# Altium schematic symbol library JLC_PCB.SchLib: 359 symbols (part 1 of 3)
Pins are listed as number, name and electrical type; pins without a type are passive.

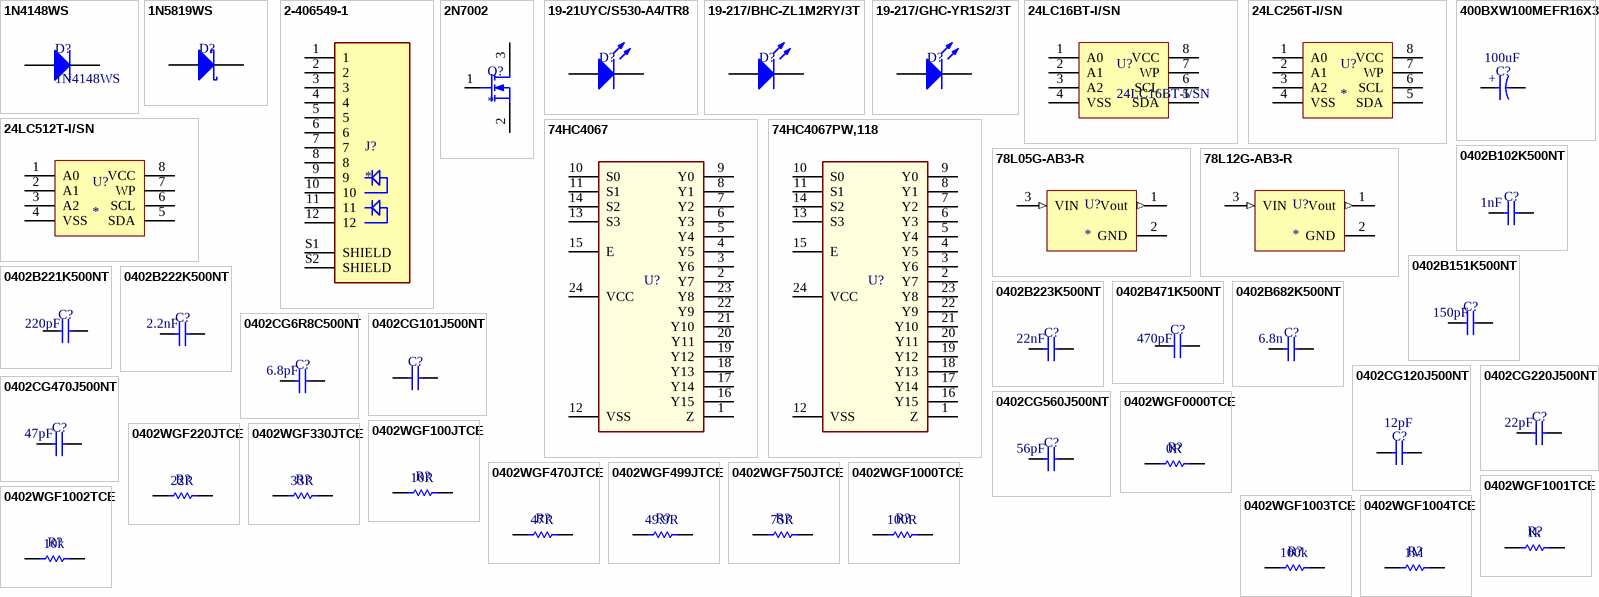
[diagram p0: symbols 1N4148WS to 0402WGF1004TCE]

## 1N4148WS
designator D?
D - DIODE - FAST TRR - 100V - 150mA - 4ns; LCSC Part #: C2128; JLC Availability: Basic; PIV: 100V; If: 150mA; Trr: 4ns
footprint SOD-323 (SOD-323/SC-76; 2 Leads; Body 1.7 x 1.3 mm, (LxW))
pins: 1 K, 2 A

## 1N5819WS
designator D?  (value not drawn)
D - DIODE - SCHOTTKY - 40V - 1A; Trr: 4ns; LCSC Part #: C191023; JLC Availability: Basic; PIV: 40V; If: 1A
footprint SOD-323 (SOD-323/SC-76; 2 Leads; Body 1.7 x 1.3 mm, (LxW))
pins: 1 K, 2 A

## 2-406549-1
designator J?
J - JACK - 8P8C - Right INV - LED - SHIELD - THT; LCSC Part #: C125068; JLC Availability: Extended
footprint TE_2-406549-1
pins: 1, 2, 3, 4, 5, 6, 7, 8, 9, 10, 11, 12, S1 SHIELD, S2 SHIELD

## 2N7002
designator Q?
Q - TRANSISTOR - MOSFET (N) - 60V - 200mW; WVDC: 60; JLC Availability: Basic; LCSC Part #: C8545
footprint TO-236AB (SOT-23-3 Leads; Body 3.1 x 3 mm, inc. leads (LxW max))
pins: 1 G, 2 S, 3 D

## 19-21UYC/S530-A4/TR8
designator D?  (value not drawn)
D - LED - 0603 - Yellow (Sodium); LCSC Part #: C409441; JLC Availability: Extended
footprint D_0603 (Chip Diode; Body 1.6 x 0.8 mm (LxW typ))
pins: 1 K, 2 A

## 19-217/BHC-ZL1M2RY/3T
designator D?  (value not drawn)
D - LED - 0603 - Blue; LCSC Part #: C72041; JLC Availability: Basic
footprint D_0603 (Chip Diode; Body 1.6 x 0.8 mm (LxW typ))
pins: 1 K, 2 A

## 19-217/GHC-YR1S2/3T
designator D?  (value not drawn)
D - LED - 0603 - Green; LCSC Part #: C72043; JLC Availability: Basic
footprint D_0603 (Chip Diode; Body 1.6 x 0.8 mm (LxW typ))
pins: 1 K, 2 A

## 24LC16BT-I/SN
designator U?
U - IC - EEPROM 16k; LCSC Part #: C5456; JLC Availability: Extended; Storage: 16K
footprint SOIC-8-P1.27-W3.5
pins: 1 A0, 2 A1, 3 A2, 4 VSS, 5 SDA, 6 SCL, 7 WP, 8 VCC

## 24LC256T-I/SN
designator U?
U - IC - EEPROM 256k; LCSC Part #: C5458; JLC Availability: Extended; Storage: 256k
footprint SOIC-8-P1.27-W3.5
pins: 1 A0, 2 A1, 3 A2, 4 VSS, 5 SDA, 6 SCL, 7 WP, 8 VCC

## 24LC512T-I/SN
designator U?
U - IC - EEPROM 512k; LCSC Part #: C52088; JLC Availability: Extended; Storage: 512k
footprint SOIC-8-P1.27-W3.5
pins: 1 A0, 2 A1, 3 A2, 4 VSS, 5 SDA, 6 SCL, 7 WP, 8 VCC

## 74HC4067
designator U?
U - IC -16 Port Analog MUX; ComponentLink1Description: Manufacturer URL; ComponentLink1URL: http://www.st.com/web/en/home.html; ComponentLink2Description: Datasheet; ComponentLink2URL: http://www.st.com/st-web-ui/static/active/en/resource/technical/document/datasheet/CD00161566.pdf; ComponentLink3Description: Package Specification; ComponentLink3URL: http://www.st.com/st-web-ui/static/active/en/resource/technical/document/datasheet/DM00058181.pdf; JLC Availability: Extended; LCSC Part #: C547039
footprint TSSOP-24-P0.65MM-W4.4MM-LONGPADS (Shrink Small Outline; 24 Leads)
pins: 1 Z, 2 Y7, 3 Y6, 4 Y5, 5 Y4, 6 Y3, 7 Y2, 8 Y1, 9 Y0, 10 S0 "VSS_3", 11 S1, 12 VSS (power), 13 S3, 14 S2, 15 E, 16 Y15, 17 Y14, 18 Y13, 19 Y12, 20 Y11, 21 Y10, 22 Y9, 23 Y8, 24 VCC (power)

## 74HC4067PW,118
designator U?
U - IC -16 Port Analog MUX; ComponentLink1Description: Manufacturer URL; ComponentLink1URL: http://www.st.com/web/en/home.html; ComponentLink2Description: Datasheet; ComponentLink2URL: http://www.st.com/st-web-ui/static/active/en/resource/technical/document/datasheet/CD00161566.pdf; ComponentLink3Description: Package Specification; ComponentLink3URL: http://www.st.com/st-web-ui/static/active/en/resource/technical/document/datasheet/DM00058181.pdf; JLC Availability: Extended; LCSC Part #: C179326
footprint TSSOP-24-P0.65MM-W4.4MM-LONGPADS (Shrink Small Outline; 24 Leads)
pins: 1 Z, 2 Y7, 3 Y6, 4 Y5, 5 Y4, 6 Y3, 7 Y2, 8 Y1, 9 Y0, 10 S0 "VSS_3", 11 S1, 12 VSS (power), 13 S3, 14 S2, 15 E, 16 Y15, 17 Y14, 18 Y13, 19 Y12, 20 Y11, 21 Y10, 22 Y9, 23 Y8, 24 VCC (power)

## 78L05G-AB3-R
designator U?
U - IC - 5V Power Regulator; VOut: 5.0; LCSC Part #: C71136; JLC Availability: Basic
footprint SOT-223-3 (SOT223, 4-Leads, Body IPC High Density)
pins: 1 Vout (out), 2 GND (power), 3 VIN (in)

## 78L12G-AB3-R
designator U?
U - IC - 12V Power Regulator; VOut: 12.0; LCSC Part #: C75501; JLC Availability: Basic
footprint SOT-223-3 (SOT223, 4-Leads, Body IPC High Density)
pins: 1 Vout (out), 2 GND (power), 3 VIN (in)

## 400BXW100MEFR16X30
designator C?  value 100uF  (hidden comment: *)
C - CAPACITOR - ELECTROLYTIC - 100uF - 400V; WVDC: 400; ESR: 40mOhm; JLC Availability: Extended; LCSC Part #: C441621
footprint C_CAN_TH_7.5MM_LEADS
pins: 1, 2
text: +

## 0402B102K500NT
designator C?  value 1nF  (hidden comment: *)
C - CAPACITOR - MLCC - 1nF - 50V - 0402; WVDC: 50; LCSC Part #: C1523; JLC Availability: Basic
footprint C_0402 (Chip Capacitor; Body 1.0 x 0.5 mm (LxW typ))
pins: 1, 2

## 0402B151K500NT
designator C?  value 150pF  (hidden comment: *)
C - CAPACITOR - MLCC - 150pF - 50V - 0402; WVDC: 50; LCSC Part #: C1527; JLC Availability: Basic
footprint C_0402 (Chip Capacitor; Body 1.0 x 0.5 mm (LxW typ))
pins: 1, 2

## 0402B221K500NT
designator C?  value 220pF  (hidden comment: *)
C - CAPACITOR - MLCC - 220pF - 50V - 0402; WVDC: 50; LCSC Part #: C1530; JLC Availability: Basic
footprint C_0402 (Chip Capacitor; Body 1.0 x 0.5 mm (LxW typ))
pins: 1, 2

## 0402B222K500NT
designator C?  value 2.2nF  (hidden comment: *)
C - CAPACITOR - MLCC - 2.2nF - 50V - 0402; WVDC: 50; LCSC Part #: C1531; JLC Availability: Basic
footprint C_0402 (Chip Capacitor; Body 1.0 x 0.5 mm (LxW typ))
pins: 1, 2

## 0402B223K500NT
designator C?  value 22nF  (hidden comment: *)
C - CAPACITOR - MLCC - 22nF - 50V - 0402; WVDC: 50; LCSC Part #: C1532; JLC Availability: Basic
footprint C_0402 (Chip Capacitor; Body 1.0 x 0.5 mm (LxW typ))
pins: 1, 2

## 0402B471K500NT
designator C?  value 470pF  (hidden comment: *)
C - CAPACITOR - MLCC - 470pF - 50V - 0402; WVDC: 50; LCSC Part #: C1537; JLC Availability: Basic
footprint C_0402 (Chip Capacitor; Body 1.0 x 0.5 mm (LxW typ))
pins: 1, 2

## 0402B682K500NT
designator C?  value 6.8n  (hidden comment: *)
C - CAPACITOR - MLCC - 6.8nF - 50V - 0402; WVDC: 50; LCSC Part #: C1542; JLC Availability: Basic
footprint C_0402 (Chip Capacitor; Body 1.0 x 0.5 mm (LxW typ))
pins: 1, 2

## 0402CG6R8C500NT
designator C?  value 6.8pF  (hidden comment: *)
C - CAPACITOR - MLCC - 6.8pF - 50V - 0402; WVDC: 50; LCSC Part #: C1576; JLC Availability: Basic
footprint C_0402 (Chip Capacitor; Body 1.0 x 0.5 mm (LxW typ))
pins: 1, 2

## 0402CG101J500NT
designator C?  (value not drawn)
C - CAPACITOR - MLCC - 100pF - 50V - 0402; LCSC Part #: C1546; JLC Availability: Extended
footprint C_0402 (Chip Capacitor; Body 1.0 x 0.5 mm (LxW typ))
pins: 1, 2

## 0402CG120J500NT
designator C?  value 12pF  (hidden comment: *)
C - CAPACITOR - MLCC - 12pF - 50V - 0402; WVDC: 50; LCSC Part #: C1547; JLC Availability: Basic
footprint C_0402 (Chip Capacitor; Body 1.0 x 0.5 mm (LxW typ))
pins: 1, 2

## 0402CG220J500NT
designator C?  value 22pF  (hidden comment: *)
C - CAPACITOR - MLCC - 22pF - 50V - 0402; WVDC: 50; LCSC Part #: C1555; JLC Availability: Basic
footprint C_0402 (Chip Capacitor; Body 1.0 x 0.5 mm (LxW typ))
pins: 1, 2

## 0402CG470J500NT
designator C?  value 47pF  (hidden comment: *)
C - CAPACITOR - MLCC - 47pF - 50V - 0402; WVDC: 50; LCSC Part #: C1567; JLC Availability: Basic
footprint C_0402 (Chip Capacitor; Body 1.0 x 0.5 mm (LxW typ))
pins: 1, 2

## 0402CG560J500NT
designator C?  value 56pF  (hidden comment: *)
C - CAPACITOR - MLCC - 56pF - 50V -  0402; WVDC: 50; LCSC Part #: C1572; JLC Availability: Basic
footprint C_0402 (Chip Capacitor; Body 1.0 x 0.5 mm (LxW typ))
pins: 1, 2

## 0402WGF0000TCE
designator R?  value 0R  (hidden comment: *)
R - RESISTOR - SMD - 0R - 1% - 0402; LCSC Part #: C17168; JLC Availability: Basic
footprint R_0402 (Body 1.0 x 0.5 mm (LxW typ))
pins: 1, 2

## 0402WGF100JTCE
designator R?  value 10R  (hidden comment: *)
R - RESISTOR - SMD - 10R - 1% - 0402; LCSC Part #: C25077; JLC Availability: Basic
footprint R_0402 (Body 1.0 x 0.5 mm (LxW typ))
pins: 1, 2

## 0402WGF220JTCE
designator R?  value 22R  (hidden comment: *)
R - RESISTOR - SMD - 22R - 1% - 0402; LCSC Part #: C25092; JLC Availability: Basic
footprint R_0402 (Body 1.0 x 0.5 mm (LxW typ))
pins: 1, 2

## 0402WGF330JTCE
designator R?  value 33R  (hidden comment: *)
R - RESISTOR - SMD - 33R - 1% - 0402; LCSC Part #: C25105; JLC Availability: Basic
footprint R_0402 (Body 1.0 x 0.5 mm (LxW typ))
pins: 1, 2

## 0402WGF470JTCE
designator R?  value 47R  (hidden comment: *)
R - RESISTOR - SMD - 47R - 1% - 0402; LCSC Part #: C25118; JLC Availability: Basic
footprint R_0402 (Body 1.0 x 0.5 mm (LxW typ))
pins: 1, 2

## 0402WGF499JTCE
designator R?  value 49.9R  (hidden comment: *)
R - RESISTOR - SMD - 49.9R - 1% - 0402; LCSC Part #: C25120; JLC Availability: Basic
footprint R_0402 (Body 1.0 x 0.5 mm (LxW typ))
pins: 1, 2

## 0402WGF750JTCE
designator R?  value 75R  (hidden comment: *)
R - RESISTOR - SMD - 75R - 1% - 0402; LCSC Part #: C25133; JLC Availability: Basic
footprint R_0402 (Body 1.0 x 0.5 mm (LxW typ))
pins: 1, 2

## 0402WGF1000TCE
designator R?  value 100R  (hidden comment: *)
R - RESISTOR - SMD - 100R - 1% - 0402; LCSC Part #: C25076; JLC Availability: Basic
footprint R_0402 (Body 1.0 x 0.5 mm (LxW typ))
pins: 1, 2

## 0402WGF1001TCE
designator R?  value 1k  (hidden comment: *)
R - RESISTOR - SMD - 1k - 1% - 0402; LCSC Part #: C11702; JLC Availability: Basic
footprint R_0402 (Body 1.0 x 0.5 mm (LxW typ))
pins: 1, 2

## 0402WGF1002TCE
designator R?  value 10k  (hidden comment: *)
R - RESISTOR - SMD - 10k - 1% - 0402; LCSC Part #: C25744; JLC Availability: Basic
footprint R_0402 (Body 1.0 x 0.5 mm (LxW typ))
pins: 1, 2

## 0402WGF1003TCE
designator R?  value 100k  (hidden comment: *)
R - RESISTOR - SMD - 100k - 1% -  0402; LCSC Part #: C25741; JLC Availability: Basic
footprint R_0402 (Body 1.0 x 0.5 mm (LxW typ))
pins: 1, 2

## 0402WGF1004TCE
designator R?  value 1M  (hidden comment: *)
R - RESISTOR - SMD - 1M - 1% - 0402; LCSC Part #: C26083; JLC Availability: Basic
footprint R_0402 (Body 1.0 x 0.5 mm (LxW typ))
pins: 1, 2

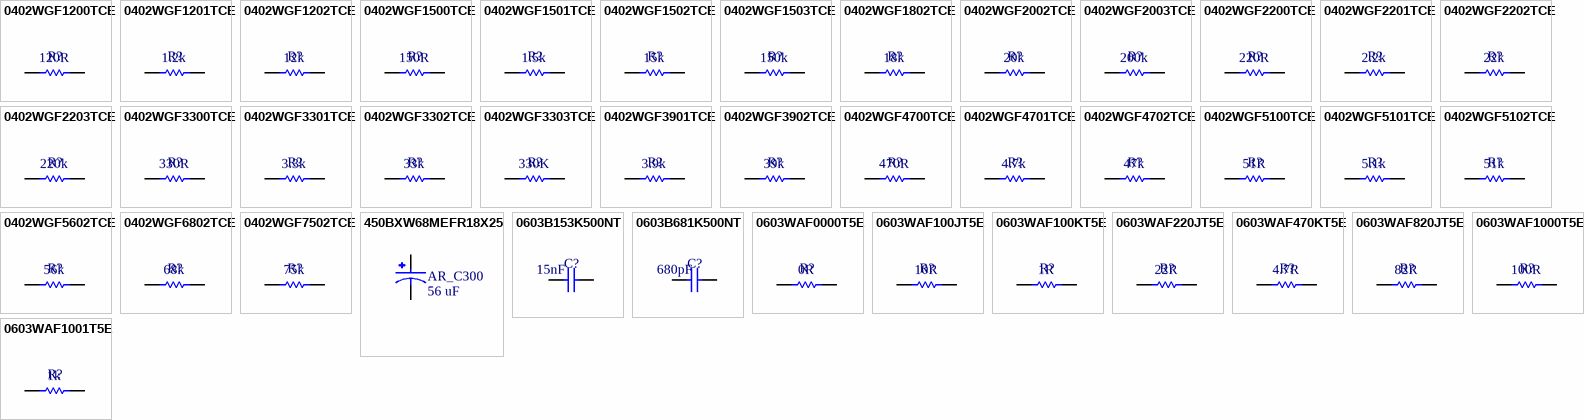
[diagram p1: symbols 0402WGF1200TCE to 0603WAF1001T5E]

## 0402WGF1200TCE
designator R?  value 120R  (hidden comment: *)
R - RESISTOR - SMD - 120R - 1% - 0402; LCSC Part #: C25079; JLC Availability: Basic
footprint R_0402 (Body 1.0 x 0.5 mm (LxW typ))
pins: 1, 2

## 0402WGF1201TCE
designator R?  value 1.2k  (hidden comment: *)
R - RESISTOR - SMD - 1.2k - 1% - 0402; LCSC Part #: C25862; JLC Availability: Basic
footprint R_0402 (Body 1.0 x 0.5 mm (LxW typ))
pins: 1, 2

## 0402WGF1202TCE
designator R?  value 12k  (hidden comment: *)
R - RESISTOR - SMD - 12k - 1% - 0402; LCSC Part #: C25752; JLC Availability: Basic
footprint R_0402 (Body 1.0 x 0.5 mm (LxW typ))
pins: 1, 2

## 0402WGF1500TCE
designator R?  value 150R  (hidden comment: *)
R - RESISTOR - SMD - 150R - 1% - 0402; LCSC Part #: C25082; JLC Availability: Basic
footprint R_0402 (Body 1.0 x 0.5 mm (LxW typ))
pins: 1, 2

## 0402WGF1501TCE
designator R?  value 1.5k  (hidden comment: *)
R - RESISTOR - SMD - 1.5k - 1% - 0402; LCSC Part #: C25867; JLC Availability: Basic
footprint R_0402 (Body 1.0 x 0.5 mm (LxW typ))
pins: 1, 2

## 0402WGF1502TCE
designator R?  value 15k  (hidden comment: *)
R - RESISTOR - SMD - 15k - 1% - 0402; LCSC Part #: C25756; JLC Availability: Basic
footprint R_0402 (Body 1.0 x 0.5 mm (LxW typ))
pins: 1, 2

## 0402WGF1503TCE
designator R?  value 150k  (hidden comment: *)
R - RESISTOR - SMD - 150k - 1% - 0402; LCSC Part #: C25755; JLC Availability: Basic
footprint R_0402 (Body 1.0 x 0.5 mm (LxW typ))
pins: 1, 2

## 0402WGF1802TCE
designator R?  value 18k  (hidden comment: *)
R - RESISTOR - SMD - 18k - 1% - 0402; LCSC Part #: C25762; JLC Availability: Basic
footprint R_0402 (Body 1.0 x 0.5 mm (LxW typ))
pins: 1, 2

## 0402WGF2002TCE
designator R?  value 20k  (hidden comment: *)
R - RESISTOR - SMD - 20k - 1% - 0402; LCSC Part #: C25765; JLC Availability: Basic
footprint R_0402 (Body 1.0 x 0.5 mm (LxW typ))
pins: 1, 2

## 0402WGF2003TCE
designator R?  value 200k  (hidden comment: *)
R - RESISTOR - SMD - 200k - 1% - 0402; LCSC Part #: C25764; JLC Availability: Basic
footprint R_0402 (Body 1.0 x 0.5 mm (LxW typ))
pins: 1, 2

## 0402WGF2200TCE
designator R?  value 220R  (hidden comment: *)
R - RESISTOR - SMD - 220R - 1% - 0402; LCSC Part #: C25091; JLC Availability: Basic
footprint R_0402 (Body 1.0 x 0.5 mm (LxW typ))
pins: 1, 2

## 0402WGF2201TCE
designator R?  value 2.2k  (hidden comment: *)
R - RESISTOR - SMD - 2.2k - 1% - 0402; LCSC Part #: C25879; JLC Availability: Basic
footprint R_0402 (Body 1.0 x 0.5 mm (LxW typ))
pins: 1, 2

## 0402WGF2202TCE
designator R?  value 22k  (hidden comment: *)
R - RESISTOR - SMD - 22k - 1% - 0402; LCSC Part #: C25768; JLC Availability: Basic
footprint R_0402 (Body 1.0 x 0.5 mm (LxW typ))
pins: 1, 2

## 0402WGF2203TCE
designator R?  value 220k  (hidden comment: *)
R - RESISTOR - SMD - 220k - 1% - 0402; LCSC Part #: C25767; JLC Availability: Basic
footprint R_0402 (Body 1.0 x 0.5 mm (LxW typ))
pins: 1, 2

## 0402WGF3300TCE
designator R?  value 330R  (hidden comment: *)
R - RESISTOR - SMD - 330R - 1% - 0402; LCSC Part #: C25104; JLC Availability: Basic
footprint R_0402 (Body 1.0 x 0.5 mm (LxW typ))
pins: 1, 2

## 0402WGF3301TCE
designator R?  value 3.3k  (hidden comment: *)
R - RESISTOR - SMD - 3.3k - 1% - 0402; LCSC Part #: C25890; JLC Availability: Basic
footprint R_0402 (Body 1.0 x 0.5 mm (LxW typ))
pins: 1, 2

## 0402WGF3302TCE
designator R?  value 33k  (hidden comment: *)
R - RESISTOR - SMD - 33k - 1% - 0402; LCSC Part #: C25779; JLC Availability: Basic
footprint R_0402 (Body 1.0 x 0.5 mm (LxW typ))
pins: 1, 2

## 0402WGF3303TCE
designator R?  value 330K  (hidden comment: *)
R - RESISTOR - SMD - 330k - 1% - 0402; LCSC Part #: C25778; JLC Availability: Basic
footprint R_0402 (Body 1.0 x 0.5 mm (LxW typ))
pins: 1, 2

## 0402WGF3901TCE
designator R?  value 3.9k  (hidden comment: *)
R - RESISTOR - SMD - 3.9k - 1% - 0402; LCSC Part #: C51721; JLC Availability: Basic
footprint R_0402 (Body 1.0 x 0.5 mm (LxW typ))
pins: 1, 2

## 0402WGF3902TCE
designator R?  value 39k  (hidden comment: *)
R - RESISTOR - SMD - 39k - 1% - 0402; LCSC Part #: C25783; JLC Availability: Basic
footprint R_0402 (Body 1.0 x 0.5 mm (LxW typ))
pins: 1, 2

## 0402WGF4700TCE
designator R?  value 470R  (hidden comment: *)
R - RESISTOR - SMD - 470R - 1% - 0603; LCSC Part #: C25117; JLC Availability: Basic
footprint R_0603 (Body 1.6 x 0.8 mm (LxW typ))
pins: 1, 2

## 0402WGF4701TCE
designator R?  value 4.7k  (hidden comment: *)
R - RESISTOR - SMD - 4.7k - 1% - 0402; LCSC Part #: C25900; JLC Availability: Basic
footprint R_0402 (Body 1.0 x 0.5 mm (LxW typ))
pins: 1, 2

## 0402WGF4702TCE
designator R?  value 47k  (hidden comment: *)
R - RESISTOR - SMD - 47k - 1% - 0402; LCSC Part #: C25792; JLC Availability: Basic
footprint R_0402 (Body 1.0 x 0.5 mm (LxW typ))
pins: 1, 2

## 0402WGF5100TCE
designator R?  value 51R  (hidden comment: *)
R - RESISTOR - SMD - 51R - 1% - 0402; LCSC Part #: C25123; JLC Availability: Basic
footprint R_0402 (Body 1.0 x 0.5 mm (LxW typ))
pins: 1, 2

## 0402WGF5101TCE
designator R?  value 5.1k  (hidden comment: *)
R - RESISTOR - SMD - 5.1k - 1% - 0402; LCSC Part #: C25905; JLC Availability: Basic
footprint R_0402 (Body 1.0 x 0.5 mm (LxW typ))
pins: 1, 2

## 0402WGF5102TCE
designator R?  value 51k  (hidden comment: *)
R - RESISTOR - SMD - 51k - 1% - 0402; LCSC Part #: C25794; JLC Availability: Basic
footprint R_0402 (Body 1.0 x 0.5 mm (LxW typ))
pins: 1, 2

## 0402WGF5602TCE
designator R?  value 56k  (hidden comment: *)
R - RESISTOR - SMD - 56k - 1% - 0402; LCSC Part #: C25796; JLC Availability: Basic
footprint R_0402 (Body 1.0 x 0.5 mm (LxW typ))
pins: 1, 2

## 0402WGF6802TCE
designator R?  value 68k  (hidden comment: *)
R - RESISTOR - SMD - 68k - 1% - 0402; LCSC Part #: C36871; JLC Availability: Basic
footprint R_0402 (Body 1.0 x 0.5 mm (LxW typ))
pins: 1, 2

## 0402WGF7502TCE
designator R?  value 75k  (hidden comment: *)
R - RESISTOR - SMD - 75k - 1% - 0402; LCSC Part #: C25798; JLC Availability: Basic
footprint R_0402 (Body 1.0 x 0.5 mm (LxW typ))
pins: 1, 2

## 450BXW68MEFR18X25
designator AR_C300, comment 56 uF
C - 56 uF 450V TH ELECTROYLTIC CAPACITOR; MANUFACTURER: RUBYCON; Value: 56uF; LCSC Part #: C439911
footprint ELECTROLYTIC 18X25 MM
pins: 1, 2

## 0603B153K500NT
designator C?  value 15nF  (hidden comment: *)
C - CAPACITOR - MLCC - 15nF - 50V - 0603; WVDC: 50; LCSC Part #: C1596; JLC Availability: Basic
footprint C_0603 (Chip Capacitor; Body 1.6 x 0.8 mm (LxW typ))
pins: 1, 2

## 0603B681K500NT
designator C?  value 680pF  (hidden comment: *)
C - CAPACITOR - MLCC - 680pF - 50V -  0603; WVDC: 50; LCSC Part #: C1630; JLC Availability: Basic
footprint C_0603 (Chip Capacitor; Body 1.6 x 0.8 mm (LxW typ))
pins: 1, 2

## 0603WAF0000T5E
designator R?  value 0R  (hidden comment: *)
R - RESISTOR - SMD - 0R - 1% - 0603; LCSC Part #: C21189; JLC Availability: Basic
footprint R_0603 (Body 1.6 x 0.8 mm (LxW typ))
pins: 1, 2

## 0603WAF100JT5E
designator R?  value 10R  (hidden comment: *)
R - RESISTOR - SMD - 10R - 1% - 0603; LCSC Part #: C22859; JLC Availability: Basic
footprint R_0603 (Body 1.6 x 0.8 mm (LxW typ))
pins: 1, 2

## 0603WAF100KT5E
designator R?  value 1R  (hidden comment: *)
R - RESISTOR - SMD - 1R - 1% -  0603; LCSC Part #: C22936; JLC Availability: Basic
footprint R_0603 (Body 1.6 x 0.8 mm (LxW typ))
pins: 1, 2

## 0603WAF220JT5E
designator R?  value 22R  (hidden comment: *)
R - RESISTOR - SMD - 22R - 1% - 0603; LCSC Part #: C23345; JLC Availability: Basic
footprint R_0603 (Body 1.6 x 0.8 mm (LxW typ))
pins: 1, 2

## 0603WAF470KT5E
designator R?  value 4.7R  (hidden comment: *)
R - RESISTOR - SMD - 4.7R - 1% - 0603; LCSC Part #: C23162; JLC Availability: Basic
footprint R_0603 (Body 1.6 x 0.8 mm (LxW typ))
pins: 1, 2

## 0603WAF820JT5E
designator R?  value 82R  (hidden comment: *)
R - RESISTOR - SMD - 82R - 1% - 0603; LCSC Part #: C23255; JLC Availability: Basic
footprint R_0603 (Body 1.6 x 0.8 mm (LxW typ))
pins: 1, 2

## 0603WAF1000T5E
designator R?  value 100R  (hidden comment: *)
R - RESISTOR - SMD - 100R - 1% - 0603; LCSC Part #: C22775; JLC Availability: Basic
footprint R_0603 (Body 1.6 x 0.8 mm (LxW typ))
pins: 1, 2

## 0603WAF1001T5E
designator R?  value 1k  (hidden comment: *)
R - RESISTOR - SMD - 1k - 1% - 0603; LCSC Part #: C21190; JLC Availability: Basic
footprint R_0603 (Body 1.6 x 0.8 mm (LxW typ))
pins: 1, 2

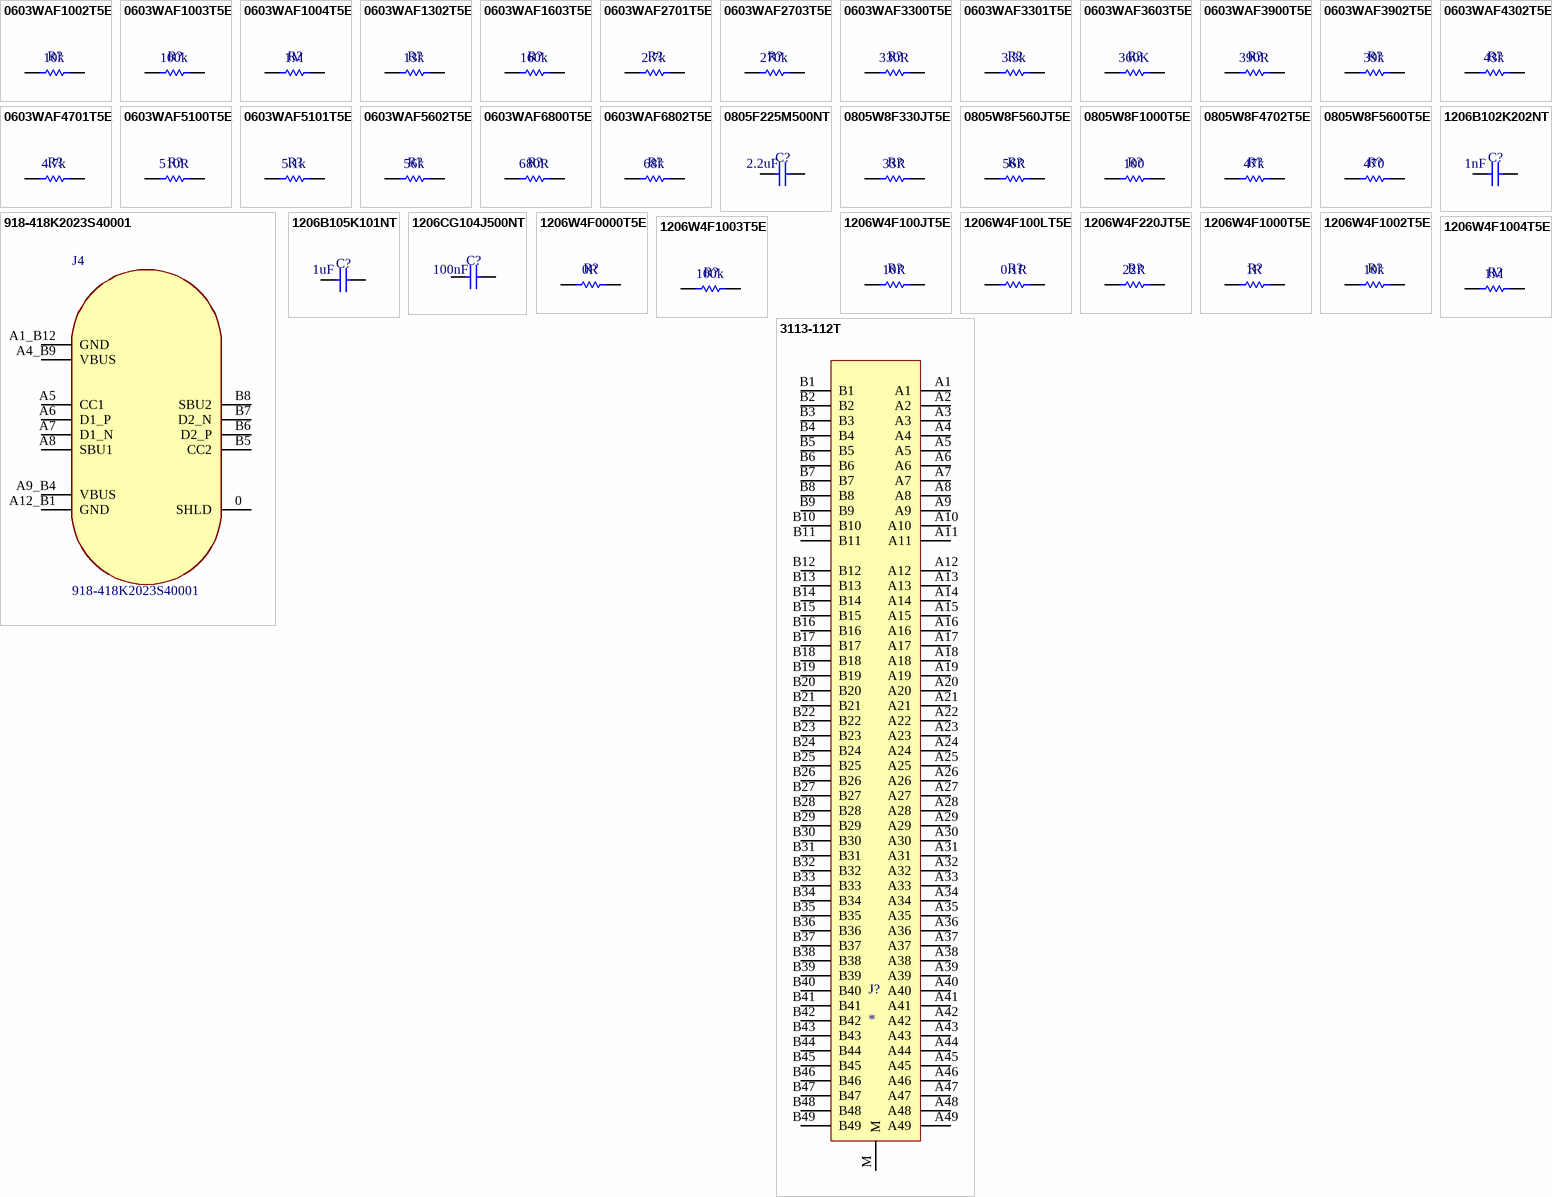
[diagram p2: symbols 0603WAF1002T5E to 3113-112T]

## 0603WAF1002T5E
designator R?  value 10k  (hidden comment: *)
R - RESISTOR - SMD - 10k - 1% - 0603; LCSC Part #: C25804; JLC Availability: Basic
footprint R_0603 (Body 1.6 x 0.8 mm (LxW typ))
pins: 1, 2

## 0603WAF1003T5E
designator R?  value 100k  (hidden comment: *)
R - RESISTOR - SMD - 100k - 1% -  0603; LCSC Part #: C25803; JLC Availability: Basic
footprint R_0603 (Body 1.6 x 0.8 mm (LxW typ))
pins: 1, 2

## 0603WAF1004T5E
designator R?  value 1M  (hidden comment: *)
R - RESISTOR - SMD - 1M - 1% - 0603; LCSC Part #: C22935; JLC Availability: Basic
footprint R_0603 (Body 1.6 x 0.8 mm (LxW typ))
pins: 1, 2

## 0603WAF1302T5E
designator R?  value 13k  (hidden comment: *)
R - RESISTOR - SMD - 13k - 1% - 0603; LCSC Part #: C22797; JLC Availability: Basic
footprint R_0603 (Body 1.6 x 0.8 mm (LxW typ))
pins: 1, 2

## 0603WAF1603T5E
designator R?  value 160k  (hidden comment: *)
R - RESISTOR - SMD - 160k - 1% - 0603; LCSC Part #: C22813; JLC Availability: Basic
footprint R_0603 (Body 1.6 x 0.8 mm (LxW typ))
pins: 1, 2

## 0603WAF2701T5E
designator R?  value 2.7k  (hidden comment: *)
R - RESISTOR - SMD - 2.7k - 1% - 0603; LCSC Part #: C13167; JLC Availability: Basic
footprint R_0603 (Body 1.6 x 0.8 mm (LxW typ))
pins: 1, 2

## 0603WAF2703T5E
designator R?  value 270k  (hidden comment: *)
R - RESISTOR - SMD - 270k - 1% - 0603; LCSC Part #: C22965; JLC Availability: Basic
footprint R_0603 (Body 1.6 x 0.8 mm (LxW typ))
pins: 1, 2

## 0603WAF3300T5E
designator R?  value 330R  (hidden comment: *)
R - RESISTOR - SMD - 330R - 1% - 0603; LCSC Part #: C23138; JLC Availability: Basic
footprint R_0603 (Body 1.6 x 0.8 mm (LxW typ))
pins: 1, 2

## 0603WAF3301T5E
designator R?  value 3.3k  (hidden comment: *)
R - RESISTOR - SMD - 3.3k - 1% - 0603; LCSC Part #: C22978; JLC Availability: Basic
footprint R_0603 (Body 1.6 x 0.8 mm (LxW typ))
pins: 1, 2

## 0603WAF3603T5E
designator R?  value 360K  (hidden comment: *)
R - RESISTOR - SMD - 360k - 1% - 0603; LCSC Part #: C23146; JLC Availability: Basic
footprint R_0603 (Body 1.6 x 0.8 mm (LxW typ))
pins: 1, 2

## 0603WAF3900T5E
designator R?  value 390R  (hidden comment: *)
R - RESISTOR - SMD - 390R - 1% - 0603; LCSC Part #: C23151; JLC Availability: Basic
footprint R_0603 (Body 1.6 x 0.8 mm (LxW typ))
pins: 1, 2

## 0603WAF3902T5E
designator R?  value 39k  (hidden comment: *)
R - RESISTOR - SMD - 39k - 1% - 0603; LCSC Part #: C23153; JLC Availability: Basic
footprint R_0603 (Body 1.6 x 0.8 mm (LxW typ))
pins: 1, 2

## 0603WAF4302T5E
designator R?  value 43k  (hidden comment: *)
R - RESISTOR - SMD - 43k - 1% - 0603; LCSC Part #: C23172; JLC Availability: Basic
footprint R_0603 (Body 1.6 x 0.8 mm (LxW typ))
pins: 1, 2

## 0603WAF4701T5E
designator R?  value 4.7k  (hidden comment: *)
R - RESISTOR - SMD - 4.7k - 1% - 0603; LCSC Part #: C23162; JLC Availability: Basic
footprint R_0603 (Body 1.6 x 0.8 mm (LxW typ))
pins: 1, 2

## 0603WAF5100T5E
designator R?  value 510R  (hidden comment: *)
R - RESISTOR - SMD - 510R - 1% - 0603; LCSC Part #: C23193; JLC Availability: Basic
footprint R_0603 (Body 1.6 x 0.8 mm (LxW typ))
pins: 1, 2

## 0603WAF5101T5E
designator R?  value 5.1k  (hidden comment: *)
R - RESISTOR - SMD - 5.1k - 1% - 0603; LCSC Part #: C23186; JLC Availability: Basic
footprint R_0603 (Body 1.6 x 0.8 mm (LxW typ))
pins: 1, 2

## 0603WAF5602T5E
designator R?  value 56k  (hidden comment: *)
R - RESISTOR - SMD - 56k - 1% - 0603; LCSC Part #: C23206; JLC Availability: Basic
footprint R_0603 (Body 1.6 x 0.8 mm (LxW typ))
pins: 1, 2

## 0603WAF6800T5E
designator R?  value 680R  (hidden comment: *)
R - RESISTOR - SMD - 680R - 1% - 0603; LCSC Part #: C23228; JLC Availability: Basic
footprint R_0603 (Body 1.6 x 0.8 mm (LxW typ))
pins: 1, 2

## 0603WAF6802T5E
designator R?  value 68k  (hidden comment: *)
R - RESISTOR - SMD - 68k - 1% - 0603; LCSC Part #: C23231; JLC Availability: Basic
footprint R_0603 (Body 1.6 x 0.8 mm (LxW typ))
pins: 1, 2

## 0805F225M500NT
designator C?  value 2.2uF  (hidden comment: *)
C - CAPACITOR - MLCC - 2.2uF - 50V - 0805 - Y5V; WVDC: 50; LCSC Part #: C49217; JLC Availability: Basic
footprint C_0805 (Chip Capacitor; Body 2.0 x 1.2 mm (LxW typ))
pins: 1, 2

## 0805W8F330JT5E
designator R?  value 33R  (hidden comment: *)
R - RESISTOR - SMD - 33R - 1% - 0402; LCSC Part #: C17634; JLC Availability: Basic
footprint R_0805 (Body 2.0 x 1.2 mm (LxW typ))
pins: 1, 2

## 0805W8F560JT5E
designator R?  value 56R  (hidden comment: *)
R - RESISTOR - SMD - 56R - 1% - 0805; LCSC Part #: C17757; JLC Availability: Basic +
footprint R_0805 (Body 2.0 x 1.2 mm (LxW typ))
pins: 1, 2

## 0805W8F1000T5E
designator R?  value 100  (hidden comment: *)
R - RESISTOR - SMD - 100R - 1% - 0805; LCSC Part #: C17408; JLC Availability: Basic
footprint R_0805 (Body 2.0 x 1.2 mm (LxW typ))
pins: 1, 2

## 0805W8F4702T5E
designator R?  value 47k  (hidden comment: *)
R - RESISTOR - SMD - 47k - 1% - 0805; LCSC Part #: C17713; JLC Availability: Basic
footprint R_0805 (Body 2.0 x 1.2 mm (LxW typ))
pins: 1, 2

## 0805W8F5600T5E
designator R?  value 470  (hidden comment: *)
R - RESISTOR - SMD - 470R - 1% - 0805; LCSC Part #: C28636; JLC Availability: Basic
footprint R_0805 (Body 2.0 x 1.2 mm (LxW typ))
pins: 1, 2

## 918-418K2023S40001
designator J4
J - JACK - USB - Type C - Recepticle - SMT - 90°; JLC Availability: LCSC; LCSC Part #: C167321
footprint 918-418K2023S40001 (USB-C (USB TYPE-C) USB 2.0 Receptacle Connector 24 (16+8 Dummy) Position Surface Mount, Right Angle)
pins: 0 SHLD, A1_B12 GND, A4_B9 VBUS (power), A5 CC1, A6 D1_P, A7 D1_N, A8 SBU1, A9_B4 VBUS (power), A12_B1 GND, B5 CC2, B6 D2_P, B7 D2_N, B8 SBU2

## 1206B102K202NT
designator C?  value 1nF  (hidden comment: *)
C - CAPACITOR - MLCC - 1nF - 2000V - 1206 - X7R; WVDC: 2000; LCSC Part #: C9196; JLC Availability: Basic
footprint C_1206 (Chip Capacitor; Body 3.2 x 1.6 mm (LxW typ))
pins: 1, 2

## 1206B105K101NT
designator C?  value 1uF  (hidden comment: *)
C - CAPACITOR - MLCC - 1uF - 100V - 1206 - X7R; WVDC: 100; LCSC Part #: C91151; JLC Availability: Extended
footprint C_1206 (Chip Capacitor; Body 3.2 x 1.6 mm (LxW typ))
pins: 1, 2

## 1206CG104J500NT
designator C?  value 100nF  (hidden comment: *)
C - CAPACITOR - MLCC - 100nF - 50V - 1206 - c0g; WVDC: 50; LCSC Part #: C46348; JLC Availability: Extended
footprint C_1206 (Chip Capacitor; Body 3.2 x 1.6 mm (LxW typ))
pins: 1, 2

## 1206W4F0000T5E
designator R?  value 0R  (hidden comment: *)
R - RESISTOR - SMD - 0R - 1% - 1206; LCSC Part #: C17888; JLC Availability: Basic
footprint R_1206 (Body 3.2 x 1.6 mm (LxW typ))
pins: 1, 2

## 1206W4F100JT5E
designator R?  value 10R  (hidden comment: *)
R - RESISTOR - SMD - 10R - 1% - 1206; LCSC Part #: C17903; JLC Availability: Basic
footprint R_1206 (Body 3.2 x 1.6 mm (LxW typ))
pins: 1, 2

## 1206W4F100LT5E
designator R?  value 0.1R  (hidden comment: *)
R - RESISTOR - SMD - 0.1R - 1% - 1206; LCSC Part #: C25334; JLC Availability: Basic
footprint R_1206 (Body 3.2 x 1.6 mm (LxW typ))
pins: 1, 2

## 1206W4F220JT5E
designator R?  value 22R  (hidden comment: *)
R - RESISTOR - SMD - 22R - 1% - 1206; LCSC Part #: 1206W4F220JT5E; JLC Availability: Basic
footprint R_1206 (Body 3.2 x 1.6 mm (LxW typ))
pins: 1, 2

## 1206W4F1000T5E
designator R?  value 1R  (hidden comment: *)
R - RESISTOR - SMD - 1R - 1% - 1206; LCSC Part #: C17928; JLC Availability: Basic
footprint R_1206 (Body 3.2 x 1.6 mm (LxW typ))
pins: 1, 2

## 1206W4F1002T5E
designator R?  value 10k  (hidden comment: *)
R - RESISTOR - SMD - 10k - 1% - 1206; LCSC Part #: C17902; JLC Availability: Basic
footprint R_1206 (Body 3.2 x 1.6 mm (LxW typ))
pins: 1, 2

## 1206W4F1003T5E
designator R?  value 100k  (hidden comment: *)
R - RESISTOR - SMD - 100k - 1% - 1206; LCSC Part #: C17900; JLC Availability: Basic
footprint R_1206 (Body 3.2 x 1.6 mm (LxW typ))
pins: 1, 2

## 1206W4F1004T5E
designator R?  value 1M  (hidden comment: *)
R - RESISTOR - SMD - 1M - 1% - 1206; LCSC Part #: C17927; JLC Availability: Basic
footprint R_1206 (Body 3.2 x 1.6 mm (LxW typ))
pins: 1, 2

## 3113-112T
designator J?
J - JACK - PCI-E 1mm 96p SMD Card Edge Connectors; JLC Availability: Extended; LCSC Part No: C404103
footprint 3113-112T (PCI & PCI Express GEN3.0)
pins: A1, A2, A3, A4, A5, A6, A7, A8, A9, A10, A11, A12, A13, A14, A15, A16, A17, A18, A19, A20, A21, A22, A23, A24, A25, A26, A27, A28, A29, A30, A31, A32, A33, A34, A35, A36, A37, A38, A39, A40, A41, A42, A43, A44, A45, A46, A47, A48, A49, B1, B2, B3, B4, B5, B6, B7, B8, B9, B10, B11, B12, B13, B14, B15, B16, B17, B18, B19, B20, B21, B22, B23, B24, B25, B26, B27, B28, B29, B30, B31, B32, B33, B34, B35, B36, B37, B38, B39, B40, B41, B42, B43, B44, B45, B46, B47, B48, B49, M

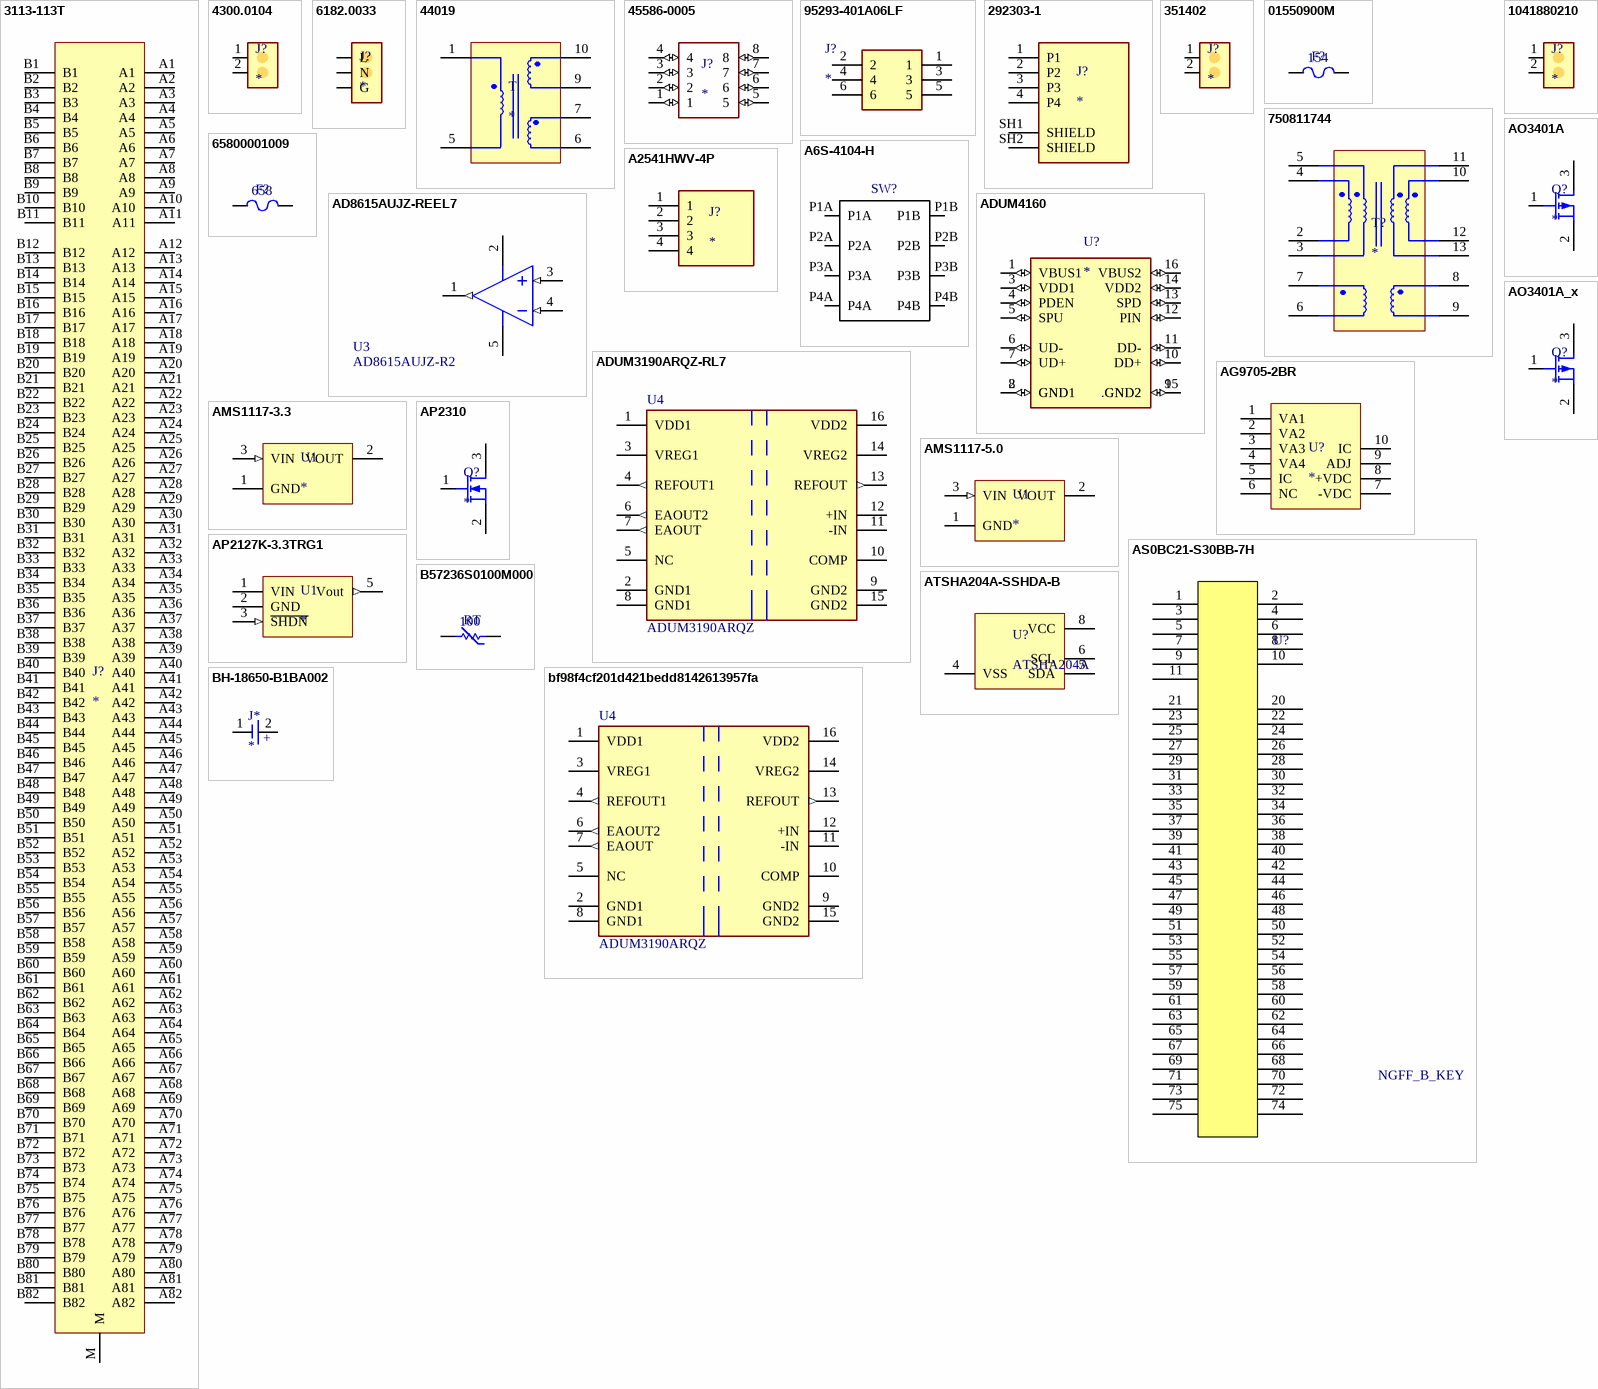
[diagram p3: symbols 3113-113T to BH-18650-B1BA002]

## 3113-113T
designator J?
J - JACK - PCI-E 1mm 164p SMD Card Edge Connectors; JLC Availability: Extended; LCSC Part No: C404104
footprint 3113-113T (PCI & PCI Express GEN3.0 , 8GT/S,BTB,SMT,164P(X16),1mm Centerline,G/F,BLK)
pins: A1, A2, A3, A4, A5, A6, A7, A8, A9, A10, A11, A12, A13, A14, A15, A16, A17, A18, A19, A20, A21, A22, A23, A24, A25, A26, A27, A28, A29, A30, A31, A32, A33, A34, A35, A36, A37, A38, A39, A40, A41, A42, A43, A44, A45, A46, A47, A48, A49, A50, A51, A52, A53, A54, A55, A56, A57, A58, A59, A60, A61, A62, A63, A64, A65, A66, A67, A68, A69, A70, A71, A72, A73, A74, A75, A76, A77, A78, A79, A80, A81, A82, B1, B2, B3, B4, B5, B6, B7, B8, B9, B10, B11, B12, B13, B14, B15, B16, B17, B18, B19, B20, B21, B22, B23, B24, B25, B26, B27, B28, B29, B30, B31, B32, B33, B34, B35, B36, B37, B38, B39, B40, B41, B42, B43, B44, B45, B46, B47, B48, B49, B50, B51, B52, B53, B54, B55, B56, B57, B58, B59, B60, B61, B62, B63, B64, B65, B66, B67, B68, B69, B70, B71, B72, B73, B74, B75, B76, B77, B78, B79, B80, B81, B82, M

## 4300.0104
designator J?
J - JACK - POWER - C8 - RIGHT - MALE; LCSC Part #: X; JLC Availability: None
footprint 4300.0104 (2.1mm Barrel Jack)
pins: 1, 2

## 6182.0033
designator J?
J - JACK - POWER - 220/V115V - IEC - RA - FEM; JLC Availability: None
footprint 6182.0033
pins: G, L, N

## 44019
designator T
T - Transfrormer - Isolation : 220 : 6 : 6; MF: Myrra; MP: 44019; Package: EI30; Value: *; LCSC Part #: N/A; Availability: None
footprint TX_EI30 (Footprint not found)
pins: 1, 5, 6, 7, 9, 10

## 45586-0005
designator J?
J - JACK - MOLEX MINI-FIT JR PCIE; LCSC Part #: None; JLC Availability: None
footprint 45586-000Y
pins: 1 (io), 2 (io), 3 (io), 4 (io), 5 (io), 6 (io), 7 (io), 8 (io)

## 95293-401A06LF
designator J?
J - Jack - SMD Header 6s 1p; Manufacturer_Name: Amphenol Communications Solutions; Manufacturer_Part_Number: 95293-401A06LF; Datasheet Link: https://cdn.amphenol-cs.com/media/wysiwyg/files/drawing/95293.pdf; Height: 9.85mm; Mouser Part Number: 649-95293-401A06LF; Mouser Price/Stock: https://www.mouser.co.uk/ProductDetail/Amphenol-FCI/95293-401A06LF?qs=oXYgH1SZuXGq9NYCLiAkwA%3D%3D; LCSC Part #: C178297; Arrow Price/Stock: https://www.arrow.com/en/products/95293-401a06lf/amphenol-fci
footprint 95293401A06LF
pins: 1, 2, 3, 4, 5, 6

## 292303-1
designator J?
J - JACK - USB RECEPT - TYPE A - RIGHT 4POS; MP: 292303-1; Value: *; Package: TH; Availability: Extended; LCSC Part #: C86461; Price: None
footprint TE_292303-1
pins: 1 P1, 2 P2, 3 P3, 4 P4, SH1 SHIELD, SH2 SHIELD

## 351402
designator J?
J - JACK - POWER - SMDflat 545/ 2 - RIGHT - MALE; LCSC Part #: X; JLC Availability: None
footprint Adels-Contact_351402
pins: 1, 2

## 01550900M
designator F?  value 154  (hidden comment: *)
F - FUSE - FUSEHOLDER - 154 - SMD; LCSC Part #: C108518; JLC Availability: Extended
footprint 01550900M
pins: 1, 2

## 750811744
designator T?
T - Transfrormer - Flyback; MF: Myrra; MP: 44019; Package: EI30; Value: *; LCSC Part #: N/A; Availability: None
footprint 750811744 (TRANSFORMER)
pins: 2, 3, 4, 5, 6, 7, 8, 9, 10, 11, 12, 13

## 1041880210
designator J?
J - JACK - POWER - MOLEX 1041880210; LCSC Part #: C565283; JLC Availability: Extended
footprint MOLEX_1041880210
pins: 1, 2

## 65800001009
designator F?  value 658  (hidden comment: *)
F - FUSE - FUSEHOLDER - 658 - SMD; LCSC Part #: C122783; JLC Availability: Extended
footprint FUSM250108X1320N
pins: 1, 2

## A6S-4104-H
designator SW?  (value not drawn)
SW - SWITCH - 4 DIP; SnapEDA_Link: https://www.snapeda.com/parts/A6S-4104-H/Omron+Electronics+Inc-EMC+Div/view-part/?ref=snap; Check_prices: https://www.snapeda.com/parts/A6S-4104-H/Omron+Electronics+Inc-EMC+Div/view-part/?ref=eda; Value: *; LCSC Part #: C306873; JLC Availability: Extended
footprint A6S-4101-H-2
pins: P1A (io), P1B (io), P2A (io), P2B (io), P3A (io), P3B (io), P4A (io), P4B (io)

## A2541HWV-4P
designator J?
J - JACK - FEM PIN_HEADER 1X4p; LCSC Part #: C5144876; JLC Availability: Extended
footprint HDR_FEM_1X4P (4 Pin 1 Row Header)
pins: 1, 2, 3, 4

## AD8615AUJZ-REEL7
designator U3, comment AD8615AUJZ-R2
U - IC - Single Channel Wide Bandwidth Operational Amplifier, 23 MHz BW, 12 V/us SR, Industrial, 5-pin SOT23 (UJ-5), Reel; Manufacturer: Analog Devices; Generic Part Number: AD8615; V Span Min: 2.7V; Slew Rate: 12V/us; Small Signal Bandwidth: 23MHz; Iq/Amp: 1.7mA; Input Offset Voltage: 80uV; Input Bias Current: 200fA; V Span Max: 6V; Amplifiers Per Package: 1; Mounting Technology: Surface Mount; ComponentLink4URL: http://www.analog.com/en/all-operational-amplifiers-op-amps/operational-amplifiers-op-amps/ad8615/products/product.html#product-recommendations; ComponentLink1URL: http://www.analog.com/en/index.html; Code_JEDEC: MO-193-AB; ComponentLink2URL: http://www.analog.com/static/imported-files/data_sheets/AD8615_8616_8618.pdf; ComponentLink4Description: Reference Circuit; ComponentLink2Description: Datasheet; PackageDescription: 5-Pin Thin Small Outline Transistor Package, Body 2.9 x 1.6 mm, Pitch 0.95 mm; RevisionNote: Reference Circuit URL fixed; PartNumber: AD8615AUJZ-R2; PackageVersion: 100708-A; ComponentLink3Description: Package Specification; ComponentLink1Description: Manufacturer URL; PackageReference: UJ-5; DatasheetVersion: Rev. E; ComponentLink3URL: http:/www.analog.com/static/imported-files/packages/PKG_PDF/TSOT(UJ)/UJ_5.pdf; ClassName: OnePhase; LCSC Part #: C403864
footprint SOT-23-5 (SOT-23-5 Leads; Body 3.1 x 3 mm, inc. leads (LxW max))
pins: 1 OUT (out), 2 +V (power), 3 +IN (in), 4 -IN (in), 5 -V (power)

## ADUM3190ARQZ-RL7
designator U4, comment ADUM3190ARQZ
U - IC ISOLATOR 16QSOP; Max Input Voltage: 1.5V; Common Mode Rejection Ratio: 72dB; Isolation Voltage: 2.5kV; Max Supply Voltage: 20V; Accuracy: 1%; Number of Channels: 1; Nominal Supply Current: 2.9mA; Number of Amplifiers: 2; Output Current per Channel: 2mA; Min Output Voltage: 400mV; Input Offset Voltage (Vos): 2.5V; Min Supply Voltage: 3V; Max Power Dissipation: 1.64W; Bandwidth: 10MHz; Input Bias Current: 10nA; Amplifier Type: ISOLATION; -3db Bandwidth: 400kHz; Max Output Voltage: 5V; Case/Package: QSOP; Radiation Hardening: No; RoHS Compliant: Yes; Height: 1.65mm; Max Operating Temperature: 85°C; Mount: Surface Mount; Packaging: Rail/Tube; Number of Pins: 16; Length: 5mm; Package Quantity: 98; Series: iCoupler®; Lead Free: Contains Lead; Contact Plating: Tin; Min Input Voltage: 400mV; Min Operating Temperature: -40°C; REACH SVHC: No SVHC; Width: 4.01mm; Gain Bandwidth Product: 10MHz; Supply Current: 2.9mA; Power Dissipation: 1.64W; ClassName: Error Amplifier; JLC Availability: Extended; LCSC Part #: C207394
footprint FP-RQ-16-IPC_B
pins: 1 VDD1 (power), 2 GND1 (power), 3 VREG1 (power), 4 REFOUT1 (out), 5 NC, 6 EAOUT2 (out), 7 EAOUT (out), 8 GND1 (power), 9 GND2 (power), 10 COMP, 11 -IN (hiz), 12 +IN (hiz), 13 REFOUT (out), 14 VREG2 (power), 15 GND2 (power), 16 VDD2 (power)

## ADUM4160
designator U?
U - IC - Digital Isolator CMOS 4-CH 12Mbps 16-Pin SOIC T/R; MF: Analog Devices, Inc.; MP: ADUM4160; SnapEDA_Link: https://www.snapeda.com/parts/ADUM4160/Analog+Devices+Inc./view-part/?ref=snap; Price: None; Package: None; Value: *; LCSC Part #: C57791; Availability: Extended; Purchase-URL: https://pricing.snapeda.com/search/part/ADUM4160/?ref=eda
footprint SOIC-16-P1.27-W7.5
pins: 1 VBUS1 (io), 2 GND (io), 3 VDD1 (io), 4 PDEN (io), 5 SPU (io), 6 UD- (io), 7 UD+ (io), 8 GND1 (io), 9 GND2 (io), 10 DD+ (io), 11 DD- (io), 12 PIN (io), 13 SPD (io), 14 VDD2 (io), 15 .GND2 (io), 16 VBUS2 (io)

## AG9705-2BR
designator U?
U - IC - POE 5V 9W; VOut: 5; LCSC Part #: -; JLC Availability: None
footprint AG9000
pins: 1 VA1, 2 VA2, 3 VA3, 4 VA4, 5 IC, 6 NC, 7 -VDC, 8 +VDC, 9 ADJ, 10 IC

## AMS1117-3.3
designator U1
U - IC - LDO - 3.3V - 800mA; VOut: 3.3; LCSC Part #: C6186; JLC Availability: Basic
footprint TO-261AA (SOT223, 4-Leads, Body 6.5x3.5mm, Pitch 2.3mm, Lead Span 7mm, IPC High Density)
pins: 1 GND (power), 2 VOUT, 3 VIN (in)

## AMS1117-5.0
designator U1
U - IC - LDO - 5V - 800mA; VOut: 5.0; LCSC Part #: C6187; JLC Availability: Basic
footprint TO-261AA (SOT223, 4-Leads, Body 6.5x3.5mm, Pitch 2.3mm, Lead Span 7mm, IPC High Density)
pins: 1 GND (power), 2 VOUT, 3 VIN (in)

## AO3401A
designator Q?
Q - TRANSISTOR - MOSFET (P) - 30V - 1.4A - 0.44 Ohm; WVDC: 30; JLC Availability: Basic; LCSC Part #: C15127
footprint TO-236AB (SOT-23-3 Leads; Body 3.1 x 3 mm, inc. leads (LxW max))
pins: 1 G, 2 S, 3 D

## AO3401A_x
designator Q?
Q - TRANSISTOR - MOSFET (P) - 30V - 1.4A - 0.44 Ohm - Extended Pricing; WVDC: 30; JLC Availability: Extended; LCSC Part #: C347476
footprint TO-236AB (SOT-23-3 Leads; Body 3.1 x 3 mm, inc. leads (LxW max))
pins: 1 G, 2 S, 3 D

## AP2127K-3.3TRG1
designator U1
U - IC - LDO 3.3V 300mA; VOut: 3.3; LCSC Part #: C156285; JLC Availability: Extended
footprint SOT-23-5 (SOT-23-5 Leads; Body 3.1 x 3 mm, inc. leads (LxW max))
pins: 1 VIN (power), 2 GND, 3 ~{SHDN} (in), 5 Vout (out)

## AP2310
designator Q?
Q - TRANSISTOR - MOSFET (N) - 60V - 3A; WVDC: 60; JLC Availability: Extended; LCSC Part #: C353087
footprint TO-236AB (SOT-23-3 Leads; Body 3.1 x 3 mm, inc. leads (LxW max))
pins: 1 G, 2 S, 3 D

## AS0BC21-S30BB-7H
designator U?, comment NGFF_B_KEY
J - JACK - NGFF B Key, 30mm; Manufacturer: Foxconn; Manufacturer P/N: AS0BC21-S30BB-7H; LCSC Part #: C2761344
footprint AS0BC21-S30BB-7H (NGFF B KEY, TE 2199119-3, AS0BC21-S30BB-7H)
pins: 1, 2, 3, 4, 5, 6, 7, 8, 9, 10, 11, 20, 21, 22, 23, 24, 25, 26, 27, 28, 29, 30, 31, 32, 33, 34, 35, 36, 37, 38, 39, 40, 41, 42, 43, 44, 45, 46, 47, 48, 49, 50, 51, 52, 53, 54, 55, 56, 57, 58, 59, 60, 61, 62, 63, 64, 65, 66, 67, 68, 69, 70, 71, 72, 73, 74, 75

## ATSHA204A-SSHDA-B
designator U?, comment ATSHA204A
U - IC - Crypto Authentication IC; LCSC Part #: C53108; JLC Availability: Extended; ?: ?
footprint SOIC-8-P1.27-W3.5
pins: 4 VSS, 5 SDA, 6 SCL, 8 VCC

## B57236S0100M000
designator RT  value 100  (hidden comment: *)
RT - NTC THERMISTOR - 100 - 1% - 5MM TH; Value2: 3380k; LCSC Part #: C125458; JLC Availability: Extended
footprint NTC_5MM
pins: 1, 2

## bf98f4cf201d421bedd8142613957fa
designator U4, comment ADUM3190ARQZ
IC ISOLATOR 16QSOP; Max Input Voltage: 1.5V; Common Mode Rejection Ratio: 72dB; Isolation Voltage: 2.5kV; Max Supply Voltage: 20V; Accuracy: 1%; Number of Channels: 1; Nominal Supply Current: 2.9mA; Number of Amplifiers: 2; Output Current per Channel: 2mA; Min Output Voltage: 400mV; Input Offset Voltage (Vos): 2.5V; Min Supply Voltage: 3V; Max Power Dissipation: 1.64W; Bandwidth: 10MHz; Input Bias Current: 10nA; Amplifier Type: ISOLATION; -3db Bandwidth: 400kHz; Max Output Voltage: 5V; Case/Package: QSOP; Radiation Hardening: No; RoHS Compliant: Yes; Height: 1.65mm; Max Operating Temperature: 85°C; Mount: Surface Mount; Packaging: Rail/Tube; Number of Pins: 16; Length: 5mm; Package Quantity: 98; Series: iCoupler®; Lead Free: Contains Lead; Contact Plating: Tin; Min Input Voltage: 400mV; Min Operating Temperature: -40°C; REACH SVHC: No SVHC; Width: 4.01mm; Gain Bandwidth Product: 10MHz; Supply Current: 2.9mA; Power Dissipation: 1.64W; ClassName: Error Amplifier
footprint FP-RQ-16-IPC_B
footprint FP-RQ-16-IPC_C
footprint FP-RQ-16-IPC_A
pins: 1 VDD1 (power), 2 GND1 (power), 3 VREG1 (power), 4 REFOUT1 (out), 5 NC, 6 EAOUT2 (out), 7 EAOUT (out), 8 GND1 (power), 9 GND2 (power), 10 COMP, 11 -IN (hiz), 12 +IN (hiz), 13 REFOUT (out), 14 VREG2 (power), 15 GND2 (power), 16 VDD2 (power)

## BH-18650-B1BA002
designator J*
J - JACK - SMT Battery Holder 18650; LCSC Part #: C2988620; Availability: Extended
footprint Keystone 1042 (SMT Battery Holder 18650)
pins: 1, 2 1
text: +

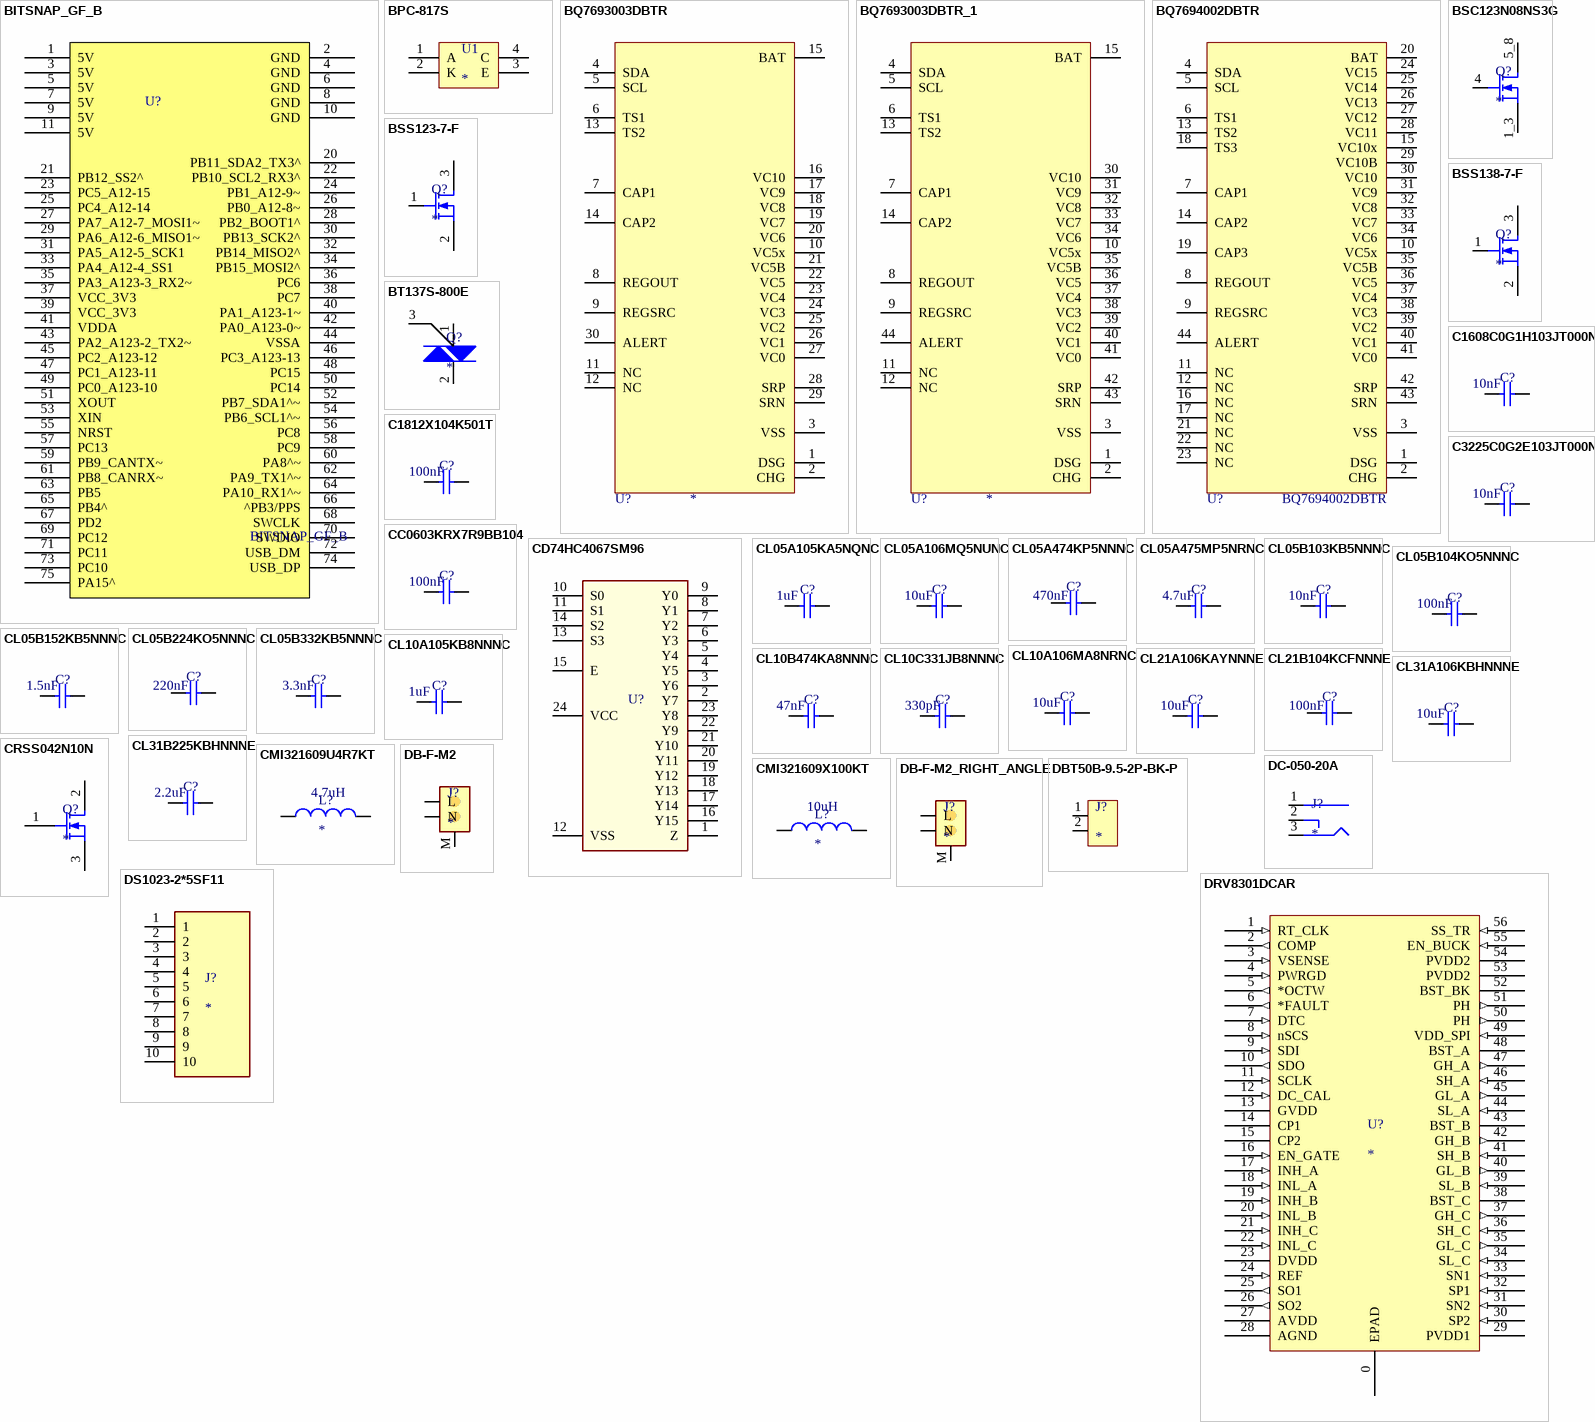
[diagram p4: symbols BITSNAP_GF_B to DS1023-2*5SF11]

## BITSNAP_GF_B
designator U?
U - IC - Bitsnap CPU, NGFF B Key; Manufacturer: Foxconn; Manufacturer P/N: AS0BC21-S30BB-7H; LCSC Part #: C2761344
footprint BITSNAP_CPU_NGFF_B (Bitsnap, NGFF B KEY, TE 2199119-3)
footprint BITSNAP_CPU_NGFF_B_EMBEDDED (Bitsnap, NGFF B KEY, Embedded Board Array)
pins: 1 5V, 2 GND, 3 5V, 4 GND, 5 5V, 6 GND, 7 5V, 8 GND, 9 5V, 10 GND, 11 5V, 20 PB11_SDA2_TX3^, 21 PB12_SS2^, 22 PB10_SCL2_RX3^, 23 PC5_A12-15, 24 PB1_A12-9~, 25 PC4_A12-14, 26 PB0_A12-8~, 27 PA7_A12-7_MOSI1~, 28 PB2_BOOT1^, 29 PA6_A12-6_MISO1~, 30 PB13_SCK2^, 31 PA5_A12-5_SCK1, 32 PB14_MISO2^, 33 PA4_A12-4_SS1, 34 PB15_MOSI2^, 35 PA3_A123-3_RX2~, 36 PC6, 37 VCC_3V3, 38 PC7, 39 VCC_3V3, 40 PA1_A123-1~, 41 VDDA, 42 PA0_A123-0~, 43 PA2_A123-2_TX2~, 44 VSSA, 45 PC2_A123-12, 46 PC3_A123-13, 47 PC1_A123-11, 48 PC15, 49 PC0_A123-10, 50 PC14, 51 XOUT, 52 PB7_SDA1^~, 53 XIN, 54 PB6_SCL1^~, 55 NRST, 56 PC8, 57 PC13, 58 PC9, 59 PB9_CANTX~, 60 PA8^~, 61 PB8_CANRX~, 62 PA9_TX1^~, 63 PB5, 64 PA10_RX1^~, 65 PB4^, 66 ^PB3/PPS, 67 PD2, 68 SWCLK, 69 PC12, 70 SWDIO, 71 PC11, 72 USB_DM, 73 PC10, 74 USB_DP, 75 PA15^

## BPC-817S
designator U1
U - IC - OPTOCOUPLER - 3.3V - 800mA; VOut: 3.3; LCSC Part #: C231225; JLC Availability: Extended
pins: 1 A, 2 K (power), 3 E, 4 C

## BQ7693003DBTR
designator U?
U - IC - 7 to 10-series cell li-ion and li-phosphate battery monitor (bq769x0 family); JLC Availability: Extended; LCSC Part #: C92116
footprint TSSOP-30-P0.5MM-W4MM (TSSOP, 30-Leads, Body 10.55x4.00mm, Pitch 0.50mm, IPC Medium Density)
pins: 1 DSG, 2 CHG, 3 VSS, 4 SDA, 5 SCL, 6 TS1, 7 CAP1, 8 REGOUT, 9 REGSRC, 10 VC5x, 11 NC, 12 NC, 13 TS2, 14 CAP2, 15 BAT, 16 VC10, 17 VC9, 18 VC8, 19 VC7, 20 VC6, 21 VC5B, 22 VC5, 23 VC4, 24 VC3, 25 VC2, 26 VC1, 27 VC0, 28 SRP, 29 SRN, 30 ALERT

## BQ7693003DBTR_1
designator U?
U - IC - 7 to 10-series cell li-ion and li-phosphate battery monitor (bq769x0 family); JLC Availability: Extended; LCSC Part #: C92116
footprint BQ_TSSOP-30-P0.5MM-W4MM (TSSOP, 30-Leads, Body 10.55x4.00mm, Pitch 0.50mm, IPC Medium Density)
footprint BQ_TSSOP-30-P0.5MM-W4MM_V2 (TSSOP, 30-Leads, Body 10.55x4.00mm, Pitch 0.50mm, IPC Medium Density)
pins: 1 DSG, 2 CHG, 3 VSS, 4 SDA, 5 SCL, 6 TS1, 7 CAP1, 8 REGOUT, 9 REGSRC, 10 VC5x, 11 NC, 12 NC, 13 TS2, 14 CAP2, 15 BAT, 30 VC10, 31 VC9, 32 VC8, 33 VC7, 34 VC6, 35 VC5B, 36 VC5, 37 VC4, 38 VC3, 39 VC2, 40 VC1, 41 VC0, 42 SRP, 43 SRN, 44 ALERT

## BQ7694002DBTR
designator U?
U - IC -9 to 15-series cell li-ion and li-phosphate battery monitor (bq76940 family)
footprint TSSOP-44-P0.5MM-W4MM (TSSOP, 44-Leads, Body 10.55x4.00mm, Pitch 0.50mm, IPC Medium Density)
pins: 1 DSG, 2 CHG, 3 VSS, 4 SDA, 5 SCL, 6 TS1, 7 CAP1, 8 REGOUT, 9 REGSRC, 10 VC5x, 11 NC, 12 NC, 13 TS2, 14 CAP2, 15 VC10x, 16 NC, 17 NC, 18 TS3, 19 CAP3, 20 BAT, 21 NC, 22 NC, 23 NC, 24 VC15, 25 VC14, 26 VC13, 27 VC12, 28 VC11, 29 VC10B, 30 VC10, 31 VC9, 32 VC8, 33 VC7, 34 VC6, 35 VC5B, 36 VC5, 37 VC4, 38 VC3, 39 VC2, 40 VC1, 41 VC0, 42 SRP, 43 SRN, 44 ALERT

## BSC123N08NS3G
designator Q?
Q - TRANSISTOR - MOSFET (N) - 80V - 11A; WVDC: 80; JLC Availability: Basic; LCSC Part #: C412732
footprint PG-TDSON-8
pins: 1_3 S, 4 G, 5_8 D

## BSS123-7-F
designator Q?
Q - TRANSISTOR - MOSFET (N) - 100V - 170mA; WVDC: 100; JLC Availability: Extended; LCSC Part #: C85107
footprint TO-236AB (SOT-23-3 Leads; Body 3.1 x 3 mm, inc. leads (LxW max))
pins: 1 G, 2 S, 3 D

## BSS138-7-F
designator Q?
Q - TRANSISTOR - MOSFET (N) - 50V - 220mA; WVDC: 50; JLC Availability: Extended; LCSC Part #: C40912
footprint TO-236AB (SOT-23-3 Leads; Body 3.1 x 3 mm, inc. leads (LxW max))
pins: 1 G, 2 S, 3 D

## BT137S-800E
designator Q?
Q - TRIAC - 800V - 4A; WVDC: 800; JLC Availability: Extended; LCSC Part #: C2831693
footprint TO-252AA (DPAK)
pins: 1 G, 2 D, 3 S

## C1608C0G1H103JT000N
designator C?  value 10nF  (hidden comment: *)
C - CAPACITOR - MLCC - 10nF - 50V - 0603 - C0G; WVDC: 50; LCSC Part #: C76599; JLC Availability: Extended
footprint C_0603 (Chip Capacitor; Body 1.6 x 0.8 mm (LxW typ))
pins: 1, 2

## C1812X104K501T
designator C?  value 100nF  (hidden comment: *)
C - CAPACITOR - MLCC - 100nF - 500V - 1812; WVDC: 500; LCSC Part #: C106149; JLC Availability: Extended
footprint C_1812 (Chip Capacitor; Body 4.5 x 3.2 mm (LxW typ))
pins: 1, 2

## C3225C0G2E103JT000N
designator C?  value 10nF  (hidden comment: *)
C - CAPACITOR - MLCC - 10nF - 250V - 1210 - C0G; WVDC: 250; LCSC Part #: C342725; JLC Availability: Extended
footprint C_1210 (Chip Capacitor; Body 3.2 x 2.5 mm (LxW typ))
pins: 1, 2

## CC0603KRX7R9BB104
designator C?  value 100nF  (hidden comment: *)
C - CAPACITOR - MLCC - 100nF - 50V - 0603; WVDC: 50; LCSC Part #: C14663; JLC Availability: Basic
footprint C_0603 (Chip Capacitor; Body 1.6 x 0.8 mm (LxW typ))
pins: 1, 2

## CD74HC4067SM96
designator U?
U - IC -16 Port Analog MUX; ComponentLink1Description: Manufacturer URL; ComponentLink1URL: http://www.st.com/web/en/home.html; ComponentLink2Description: Datasheet; ComponentLink2URL: http://www.st.com/st-web-ui/static/active/en/resource/technical/document/datasheet/CD00161566.pdf; ComponentLink3Description: Package Specification; ComponentLink3URL: http://www.st.com/st-web-ui/static/active/en/resource/technical/document/datasheet/DM00058181.pdf; JLC Availability: Extended; LCSC Part #: C98457
footprint SSOP-24-P0.65MM-W4.4MM (Shrink Small Outline; 24 Leads)
pins: 1 Z, 2 Y7, 3 Y6, 4 Y5, 5 Y4, 6 Y3, 7 Y2, 8 Y1, 9 Y0, 10 S0 "VSS_3", 11 S1, 12 VSS (power), 13 S3, 14 S2, 15 E, 16 Y15, 17 Y14, 18 Y13, 19 Y12, 20 Y11, 21 Y10, 22 Y9, 23 Y8, 24 VCC (power)

## CL05A105KA5NQNC
designator C?  value 1uF  (hidden comment: *)
C - CAPACITOR - MLCC - 1uF - 25V - 0402; WVDC: 16; LCSC Part #: C52923; JLC Availability: Basic
footprint C_0402 (Chip Capacitor; Body 1.0 x 0.5 mm (LxW typ))
pins: 1, 2

## CL05A106MQ5NUNC
designator C?  value 10uF  (hidden comment: *)
C - CAPACITOR - MLCC - 10uF - 6.3V - 0402; WVDC: 6.3; LCSC Part #: C15525; JLC Availability: Basic
footprint C_0402 (Chip Capacitor; Body 1.0 x 0.5 mm (LxW typ))
pins: 1, 2

## CL05A474KP5NNNC
designator C?  value 470nF  (hidden comment: *)
C - CAPACITOR - MLCC - 470nF - 10V - 0402; WVDC: 10; LCSC Part #: C47339; JLC Availability: Basic
footprint C_0402 (Chip Capacitor; Body 1.0 x 0.5 mm (LxW typ))
pins: 1, 2

## CL05A475MP5NRNC
designator C?  value 4.7uF  (hidden comment: *)
C - CAPACITOR - MLCC - 4.7uF - 10V - 0402; WVDC: 10; LCSC Part #: C23733; JLC Availability: Basic
footprint C_0402 (Chip Capacitor; Body 1.0 x 0.5 mm (LxW typ))
pins: 1, 2

## CL05B103KB5NNNC
designator C?  value 10nF  (hidden comment: *)
C - CAPACITOR - MLCC - 10nF - 50V - 0402; WVDC: 50; LCSC Part #: C15195; JLC Availability: Basic
footprint C_0402 (Chip Capacitor; Body 1.0 x 0.5 mm (LxW typ))
pins: 1, 2

## CL05B104KO5NNNC
designator C?  value 100nF  (hidden comment: *)
C - CAPACITOR - MLCC - 100nF - 16V - 0402; WVDC: 16; LCSC Part #: C1525; JLC Availability: Basic
footprint C_0402 (Chip Capacitor; Body 1.0 x 0.5 mm (LxW typ))
pins: 1, 2

## CL05B152KB5NNNC
designator C?  value 1.5nF  (hidden comment: *)
C - CAPACITOR - MLCC - 1.5nF - 50V - 0402; WVDC: 50; LCSC Part #: C23967; JLC Availability: Basic
footprint C_0402 (Chip Capacitor; Body 1.0 x 0.5 mm (LxW typ))
pins: 1, 2

## CL05B224KO5NNNC
designator C?  value 220nF  (hidden comment: *)
C - CAPACITOR - MLCC - 220nF - 16V - 0402; WVDC: 16; LCSC Part #: C16772; JLC Availability: Basic
footprint C_0402 (Chip Capacitor; Body 1.0 x 0.5 mm (LxW typ))
pins: 1, 2

## CL05B332KB5NNNC
designator C?  value 3.3nF  (hidden comment: *)
C - CAPACITOR - MLCC - 3.3nF - 50V - 0402; WVDC: 50; LCSC Part #: C26404; JLC Availability: Basic
footprint C_0402 (Chip Capacitor; Body 1.0 x 0.5 mm (LxW typ))
pins: 1, 2

## CL10A105KB8NNNC
designator C?  value 1uF  (hidden comment: *)
C - CAPACITOR - MLCC - 1uF - 50V - 0603; WVDC: 50; LCSC Part #: C15849; JLC Availability: Basic
footprint C_0603 (Chip Capacitor; Body 1.6 x 0.8 mm (LxW typ))
pins: 1, 2

## CL10A106MA8NRNC
designator C?  value 10uF  (hidden comment: *)
C - CAPACITOR - MLCC - 10uF - 25V - 0603; WVDC: 25; LCSC Part #: C96446; Availability: Basic
footprint C_0603 (Chip Capacitor; Body 1.6 x 0.8 mm (LxW typ))
pins: 1, 2

## CL10B474KA8NNNC
designator C?  value 47nF  (hidden comment: *)
C - CAPACITOR - MLCC - 470nF - 25V - 0603; WVDC: 25; LCSC Part #: C1623; JLC Availability: Basic
footprint C_0603 (Chip Capacitor; Body 1.6 x 0.8 mm (LxW typ))
pins: 1, 2

## CL10C331JB8NNNC
designator C?  value 330pF  (hidden comment: *)
C - CAPACITOR - MLCC - 330pF - 50V - 0603; WVDC: 50; LCSC Part #: C1664; JLC Availability: Basic
footprint C_0603 (Chip Capacitor; Body 1.6 x 0.8 mm (LxW typ))
pins: 1, 2

## CL21A106KAYNNNE
designator C?  value 10uF  (hidden comment: *)
C - CAPACITOR - MLCC - 10uF - 25V - 0805; WVDC: 25; LCSC Part #: C15850; Availability: Basic
footprint C_0805 (Chip Capacitor; Body 2.0 x 1.2 mm (LxW typ))
pins: 1, 2

## CL21B104KCFNNNE
designator C?  value 100nF  (hidden comment: *)
C - CAPACITOR - MLCC - 100nF - 100V - 0805; WVDC: 100; LCSC Part #: C28233; JLC Availability: Basic
footprint C_0805 (Chip Capacitor; Body 2.0 x 1.2 mm (LxW typ))
pins: 1, 2

## CL31A106KBHNNNE
designator C?  value 10uF  (hidden comment: *)
C - CAPACITOR - MLCC - 10uF - 50V - 1206; WVDC: 6.3; LCSC Part #: C13585; JLC Availability: Basic
footprint C_1206 (Chip Capacitor; Body 3.2 x 1.6 mm (LxW typ))
pins: 1, 2

## CL31B225KBHNNNE
designator C?  value 2.2uF  (hidden comment: *)
C - CAPACITOR - MLCC - 2.2uF - 50V - 1206 - X7R; WVDC: 50; LCSC Part #: C50254; JLC Availability: Basic
footprint C_1206 (Chip Capacitor; Body 3.2 x 1.6 mm (LxW typ))
pins: 1, 2

## CMI321609U4R7KT
designator L?  value 4.7uH
L - INDUCTOR - 4.7uH - 25mA - 1206; Isat: 25mA; LCSC Part #: C1049; JLC Availability: Basic
footprint L_1206 (Chip Inductor, Body 3.2 x 1.6 mm (LxW typ))
pins: 1, 2

## CMI321609X100KT
designator L?  value 10uH
L - INDUCTOR - 10uH - 25mA - 1206; Isat: 25mA; LCSC Part #: C1051; JLC Availability: Basic
footprint L_1206 (Chip Inductor, Body 3.2 x 1.6 mm (LxW typ))
pins: 1, 2

## CRSS042N10N
designator Q?
Q - TRANSISTOR - MOSFET (N) - 100V - 120A - 0.005R; WVDC: 100; JLC Availability: Extended; LCSC Part #: C410926
footprint TO-263-3 (D2PAK)
pins: 1 G, 2 D, 3 S

## DB-F-M2
designator J?
J - JACK - POWER - 115V - TOP - FEMALE; LCSC Part #: C2885799; JLC Availability: Extended
footprint DB-F-M2
pins: L, M, N

## DB-F-M2_RIGHT_ANGLE
designator J?
J - JACK - POWER - 115V - TOP - FEMALE; LCSC Part #: C2885799; JLC Availability: Extended
footprint DB-F-M2-RIGHT
pins: L, M, N

## DBT50B-9.5-2P-BK-P
designator J?
J - JACK - BARRIER TERMINAL - 2P; LCSC Part #: C729811; JLC Availability: Extended
footprint DBT50B-9.5-2P-BK-P (2x 9.5mm Terminal)
pins: 1, 2

## DC-050-20A
designator J?
J - JACK - POWER - Barrel Barrel; LCSC Part #: C707276; JLC Availability: Extended
footprint DC-050-20A (2.1mm Barrel Jack)
pins: 1 +, 2 -, 3 +